# EAGLE library part STM32F303K8 (library stm32_mcu)
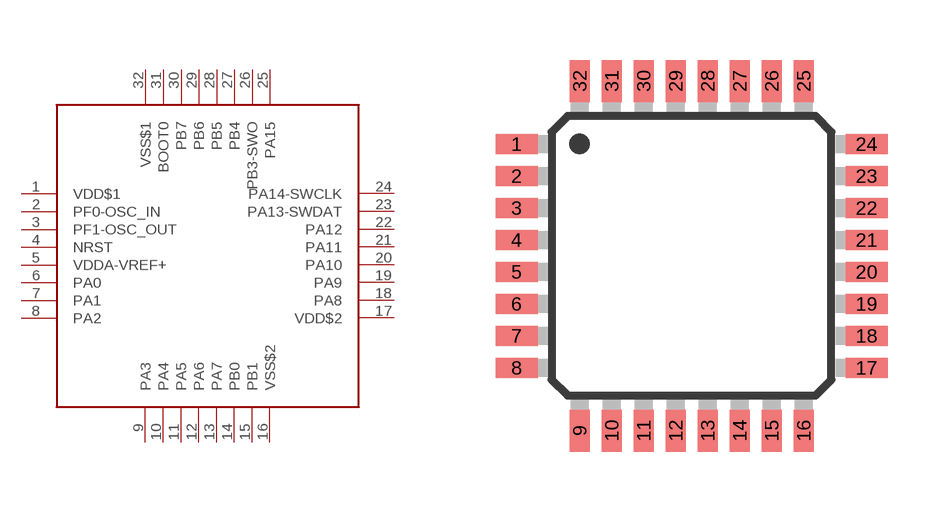
[diagram p1: symbol with the pads of LQFP32; footprint LQFP32]

Designator prefix -

## STM32F303K8  [LQFP32]
1  VDD$1  pas
2  PF0-OSC_IN
3  PF1-OSC_OUT
4  NRST
5  VDDA-VREF+  pas
6  PA0
7  PA1
8  PA2
9  PA3
10  PA4
11  PA5
12  PA6
13  PA7
14  PB0
15  PB1
16  VSS$2  pas
17  VDD$2  pas
18  PA8
19  PA9
20  PA10
21  PA11
22  PA12
23  PA13-SWDAT
24  PA14-SWCLK
25  PA15
26  PB3-SWO
27  PB4
28  PB5
29  PB6
30  PB7
31  BOOT0  in
32  VSS$1  pas

## Footprint LQFP32 (pad centres in mm)
smd 1.05 x 0.5: 1 -4.375,2.8; 2 -4.375,2; 3 -4.375,1.2; 4 -4.375,0.4; 5 -4.375,-0.4; 6 -4.375,-1.2; 7 -4.375,-2; 8 -4.375,-2.8; 17 4.375,-2.8; 18 4.375,-2; 19 4.375,-1.2; 20 4.375,-0.4; 21 4.375,0.4; 22 4.375,1.2; 23 4.375,2; 24 4.375,2.8
smd 0.5 x 1.05: 9 -2.8,-4.375; 10 -2,-4.375; 11 -1.2,-4.375; 12 -0.4,-4.375; 13 0.4,-4.375; 14 1.2,-4.375; 15 2,-4.375; 16 2.8,-4.375; 25 2.8,4.375; 26 2,4.375; 27 1.2,4.375; 28 0.4,4.375; 29 -0.4,4.375; 30 -1.2,4.375; 31 -2,4.375; 32 -2.8,4.375